# Altium schematic symbol library GOST_lib_devices.SchLib: 17 symbols
Pins are listed as number, name and electrical type; pins without a type are passive.

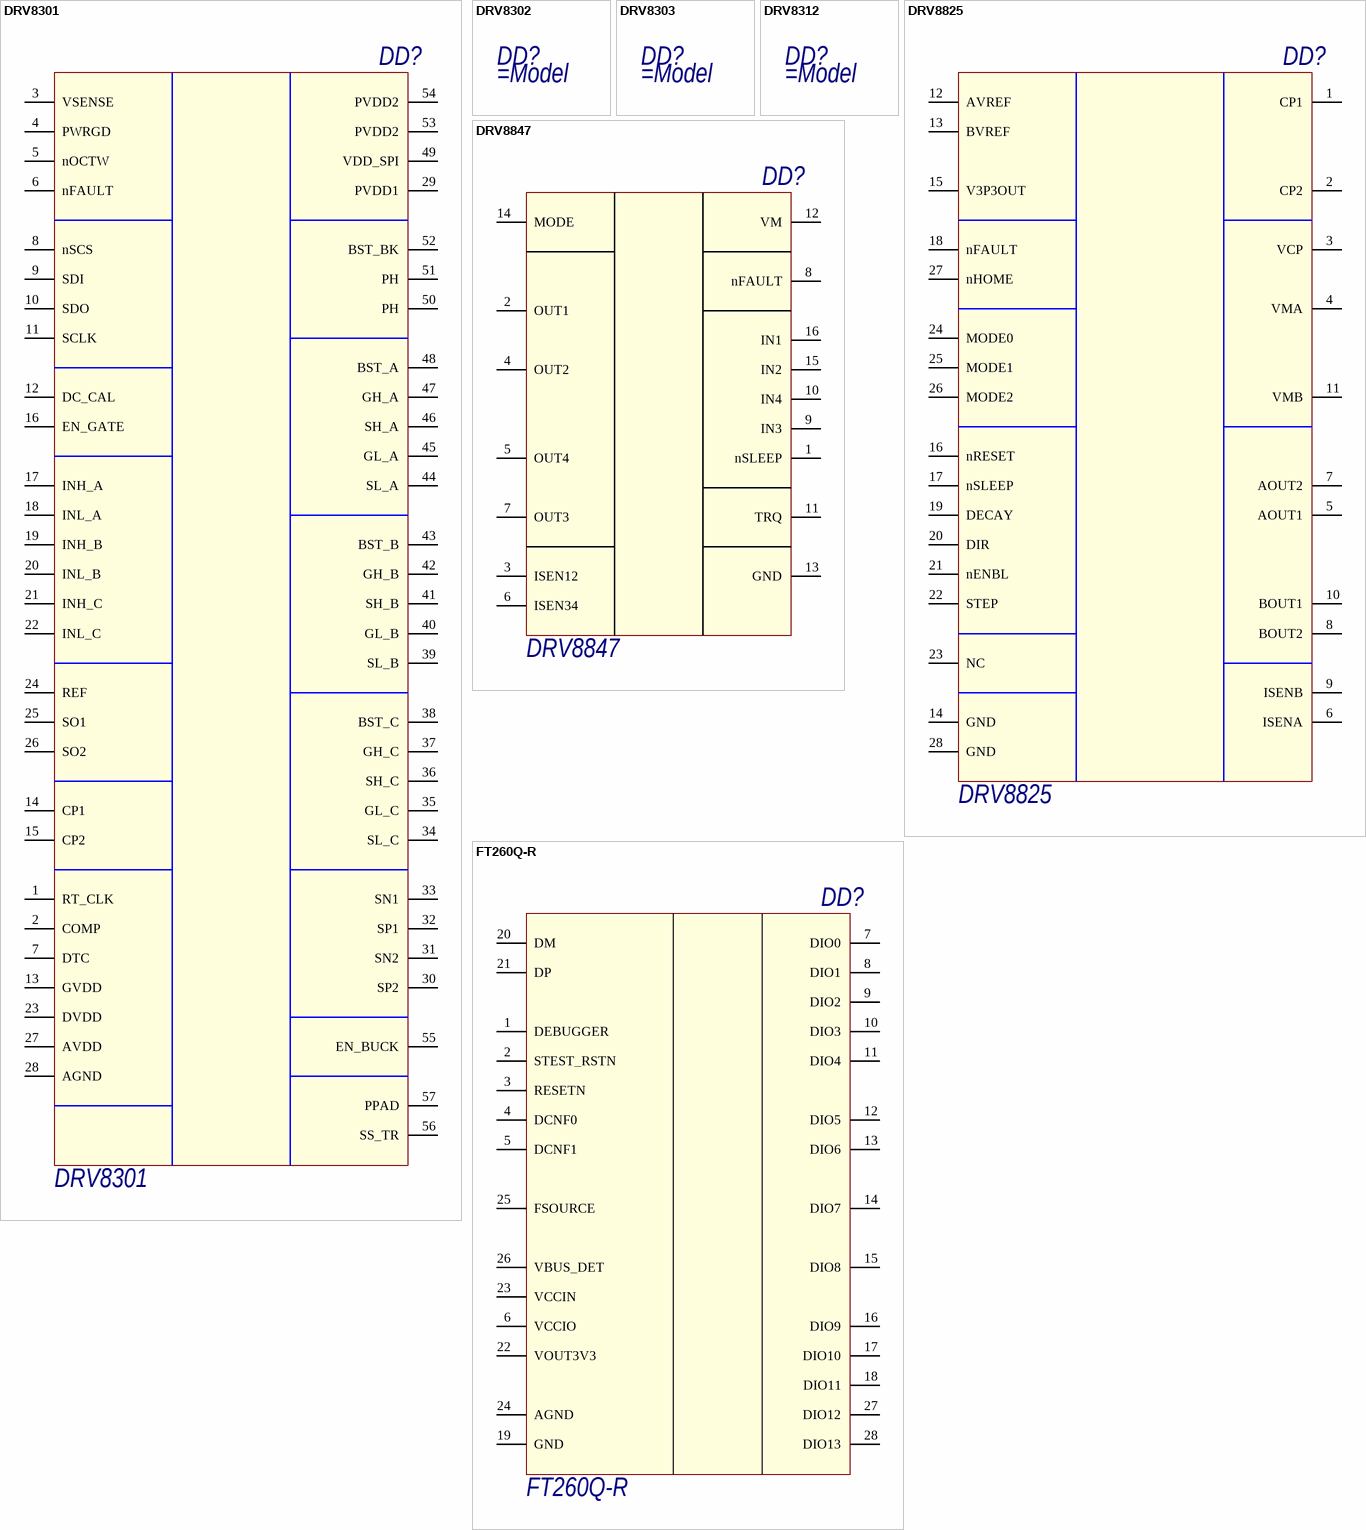
[diagram p0: symbols DRV8301 to FT260Q-R]

## DRV8301
designator DD?
Manufacture: Texas Instruments; Model: DRV8301; Case: R-PDSO-G56; HelpURL: http://www.ti.com/product/DRV8301
pins: 1 RT_CLK (power), 2 COMP (power), 3 VSENSE (power), 4 PWRGD (power), 5 nOCTW (power), 6 nFAULT (power), 7 DTC (power), 8 nSCS (power), 9 SDI (power), 10 SDO (power), 11 SCLK (power), 12 DC_CAL (power), 13 GVDD (power), 14 CP1 (power), 15 CP2 (power), 16 EN_GATE (power), 17 INH_A (power), 18 INL_A (power), 19 INH_B (power), 20 INL_B (power), 21 INH_C (power), 22 INL_C (power), 23 DVDD (power), 24 REF (power), 25 SO1 (power), 26 SO2 (power), 27 AVDD (power), 28 AGND (power), 29 PVDD1 (power), 30 SP2 (power), 31 SN2 (power), 32 SP1 (power), 33 SN1 (power), 34 SL_C (power), 35 GL_C (power), 36 SH_C (power), 37 GH_C (power), 38 BST_C (power), 39 SL_B (power), 40 GL_B (power), 41 SH_B (power), 42 GH_B (power), 43 BST_B (power), 44 SL_A (power), 45 GL_A (power), 46 SH_A (power), 47 GH_A (power), 48 BST_A (power), 49 VDD_SPI (power), 50 PH (power), 51 PH (power), 52 BST_BK (power), 53 PVDD2 (power), 54 PVDD2 (power), 55 EN_BUCK (power), 56 SS_TR (power), 57 PPAD (power)

## DRV8302
designator DD?
HelpURL: http://www.ti.com/product/DRV8302

## DRV8303
designator DD?
HelpURL: http://www.ti.com/product/DRV8303

## DRV8312
designator DD?
HelpURL: http://www.ti.com/product/DRV8312

## DRV8825
designator DD?
Manufacture: Texas Instruments; HelpURL: http://www.ti.com/product/DRV8825; Model: DRV8825; Case: TSSOP
pins: 1 CP1 (power), 2 CP2 (power), 3 VCP (power), 4 VMA (power), 5 AOUT1 (power), 6 ISENA (power), 7 AOUT2 (power), 8 BOUT2 (power), 9 ISENB (power), 10 BOUT1 (power), 11 VMB (power), 12 AVREF (power), 13 BVREF (power), 14 GND (power), 15 V3P3OUT (power), 16 nRESET (power), 17 nSLEEP (power), 18 nFAULT (power), 19 DECAY (power), 20 DIR (power), 21 nENBL (power), 22 STEP (power), 23 NC (power), 24 MODE0 (power), 25 MODE1 (power), 26 MODE2 (power), 27 nHOME (power), 28 GND (power)

## DRV8847
designator DD?
Manufacture: Texas Instruments; HelpURL: http://www.ti.com/product/DRV8847; Case: TSSOP; Model: DRV8847
pins: 1 nSLEEP (power), 2 OUT1 (power), 3 ISEN12 (power), 4 OUT2 (power), 5 OUT4 (power), 6 ISEN34 (power), 7 OUT3 (power), 8 nFAULT (power), 9 IN3 (power), 10 IN4 (power), 11 TRQ (power), 12 VM (power), 13 GND (power), 14 MODE (power), 15 IN2 (power), 16 IN1 (power)

## FT260Q-R
designator DD?
Manufacture: FTDI, Future Technology Devices International Ltd; Model: FT260Q-R; Case: 28-WQFN (5x5); HelpURL: https://www.digikey.com/product-detail/en/ftdi-future-technology-devices-international-ltd/FT260Q-R/FT260Q-RTR-ND/5956531
footprint FT260-Q (PQFN, 28-Leads, Body 5,00x5,00mm, Pitch 0,50mm, Thermal Pad 3,25x3,25mm, IPC Medium Density)
pins: 1 DEBUGGER, 2 STEST_RSTN, 3 RESETN, 4 DCNF0, 5 DCNF1, 6 VCCIO, 7 DIO0, 8 DIO1, 9 DIO2, 10 DIO3, 11 DIO4, 12 DIO5, 13 DIO6, 14 DIO7, 15 DIO8, 16 DIO9, 17 DIO10, 18 DIO11, 19 GND, 20 DM, 21 DP, 22 VOUT3V3, 23 VCCIN, 24 AGND, 25 FSOURCE, 26 VBUS_DET, 27 DIO12, 28 DIO13

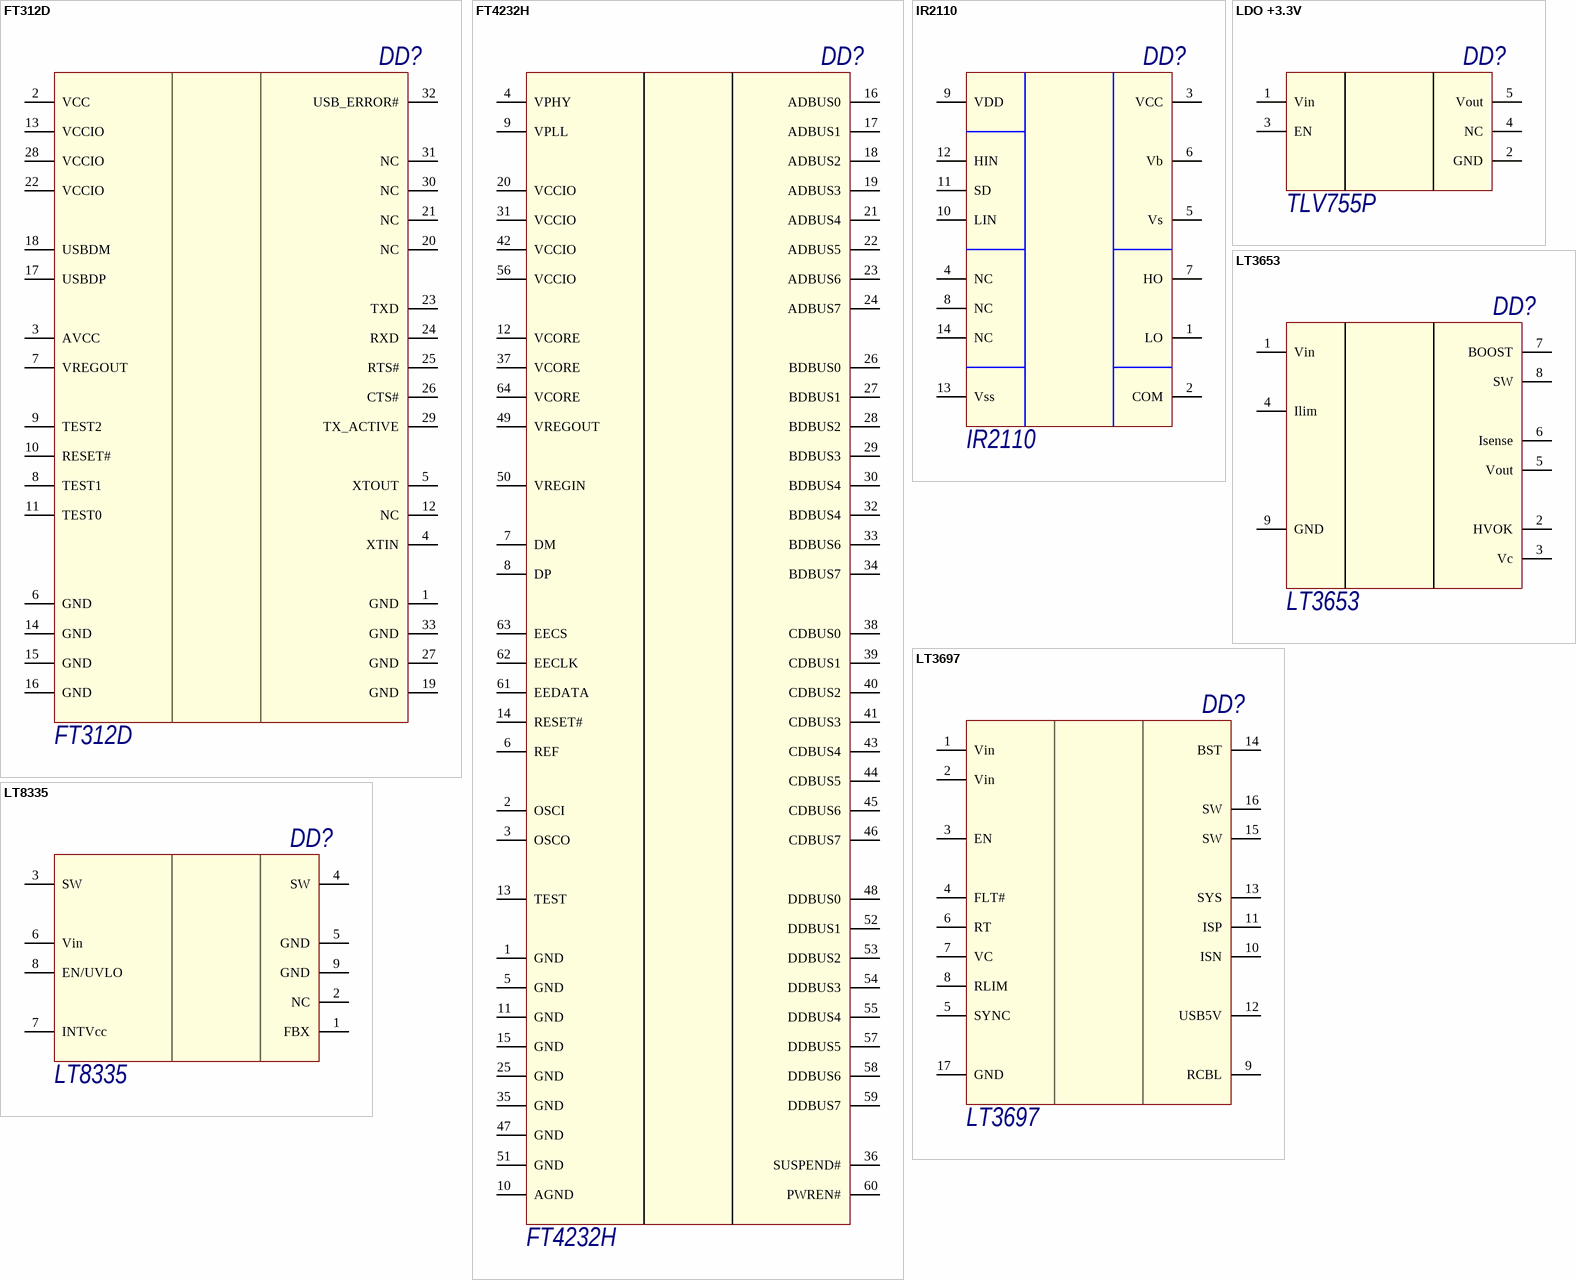
[diagram p1: symbols FT312D to LT8335]

## FT312D
designator DD?
Manufacture: FTDI, Future Technology Devices International Ltd; HelpURL: https://www.ftdichip.com/Products/ICs/FT312D.html; Case: QFN-32; Model: FT312D
footprint FT312D (QFN, 32-Leads, Body 7,00x7,00mm, Pitch 0,65mm, Thermal Pad 4,70x4,70mm, IPC Medium Density)
pins: 1 GND (power), 2 VCC (power), 3 AVCC (power), 4 XTIN (power), 5 XTOUT (power), 6 GND (power), 7 VREGOUT (power), 8 TEST1 (power), 9 TEST2 (power), 10 RESET# (power), 11 TEST0 (power), 12 NC (power), 13 VCCIO (power), 14 GND (power), 15 GND (power), 16 GND (power), 17 USBDP (power), 18 USBDM (power), 19 GND (power), 20 NC (power), 21 NC (power), 22 VCCIO (power), 23 TXD (power), 24 RXD (power), 25 RTS# (power), 26 CTS# (power), 27 GND (power), 28 VCCIO (power), 29 TX_ACTIVE (power), 30 NC (power), 31 NC (power), 32 USB_ERROR# (power), 33 GND (power)

## FT4232H
designator DD?
Manufacture: FTDI, Future Technology Devices International Ltd; HelpURL: https://www.ftdichip.com/Products/ICs/FT4232H.htm; Case: QFN-64; Model: FT4232H
footprint FT4232 (QFN-64 9x9)
pins: 1 GND (power), 2 OSCI (power), 3 OSCO (power), 4 VPHY (power), 5 GND (power), 6 REF (power), 7 DM (power), 8 DP (power), 9 VPLL (power), 10 AGND (power), 11 GND (power), 12 VCORE (power), 13 TEST (power), 14 RESET# (power), 15 GND (power), 16 ADBUS0 (power), 17 ADBUS1 (power), 18 ADBUS2 (power), 19 ADBUS3 (power), 20 VCCIO (power), 21 ADBUS4 (power), 22 ADBUS5 (power), 23 ADBUS6 (power), 24 ADBUS7 (power), 25 GND (power), 26 BDBUS0 (power), 27 BDBUS1 (power), 28 BDBUS2 (power), 29 BDBUS3 (power), 30 BDBUS4 (power), 31 VCCIO (power), 32 BDBUS4 (power), 33 BDBUS6 (power), 34 BDBUS7 (power), 35 GND (power), 36 SUSPEND# (power), 37 VCORE (power), 38 CDBUS0 (power), 39 CDBUS1 (power), 40 CDBUS2 (power), 41 CDBUS3 (power), 42 VCCIO (power), 43 CDBUS4 (power), 44 CDBUS5 (power), 45 CDBUS6 (power), 46 CDBUS7 (power), 47 GND (power), 48 DDBUS0 (power), 49 VREGOUT (power), 50 VREGIN (power), 51 GND (power), 52 DDBUS1 (power), 53 DDBUS2 (power), 54 DDBUS3 (power), 55 DDBUS4 (power), 56 VCCIO (power), 57 DDBUS5 (power), 58 DDBUS6 (power), 59 DDBUS7 (power), 60 PWREN# (power), 61 EEDATA (power), 62 EECLK (power), 63 EECS (power), 64 VCORE (power)

## IR2110
designator DD?
Model: IR2110; HelpURL: *; Case: *; Manufacture: *
pins: 1 LO (power), 2 COM (power), 3 VCC (power), 4 NC (power), 5 Vs (power), 6 Vb (power), 7 HO (power), 8 NC (power), 9 VDD (power), 10 LIN (power), 11 SD (power), 12 HIN (power), 13 Vss (power), 14 NC (power)

## LDO +3.3V
designator DD?, comment TLV755P
+5V -> +3.3V; Manufacture: Texas Instruments; Case: SOT-23; HelpURL: http://www.ti.com/product/TLV755P?keyMatch=TLV755P&tisearch=Search-EN-Everything; Model: TLV755P
footprint SOT23-5 (SOT23, 5-Leads, Body 2,90x2,80mm, Pitch 0,95mm, IPC Medium Density)
pins: 1 Vin (power), 2 GND (power), 3 EN (power), 4 NC (power), 5 Vout (power)

## LT3653
designator DD?
+7.5~+30V -> +5V; Manufacture: Linear Technology; Case: 8-Lead Plastic DFN (2mm × 3mm); Model: LT3653; HelpURL: https://www.analog.com/en/products/lt3653.html
footprint LT3653 (SON, 8-Leads, Body 2,00x3,00mm, Pitch 0,45mm, Thermal Pad 1,35x1,12mm, IPC Medium Density)
pins: 1 Vin (power), 2 HVOK (power), 3 Vc (power), 4 Ilim (power), 5 Vout (power), 6 Isense (power), 7 BOOST (power), 8 SW (power), 9 GND (power)

## LT3697
designator DD?
+6~+18V -> +5V; Manufacture: Linear Technology; Model: LT3697; HelpURL: https://www.analog.com/en/products/lt3697.html; Case: 16-Lead Plastic MSOP, Exposed Die Pad
footprint LT3697 (TSSOP, 16-Leads, Body 4,00x3,00mm, Pitch 0,50mm, Thermal Pad 2,80x1,60mm, IPC Medium Density)
pins: 1 Vin (power), 2 Vin (power), 3 EN (power), 4 FLT# (power), 5 SYNC (power), 6 RT (power), 7 VC (power), 8 RLIM (power), 9 RCBL (power), 10 ISN (power), 11 ISP (power), 12 USB5V (power), 13 SYS (power), 14 BST (power), 15 SW (power), 16 SW (power), 17 GND (power)

## LT8335
designator DD?
+4~+16V -> +5V; Manufacture: Linear Technology; Model: LT8335; Case: 8-Lead Plastic DFN (3mm × 2mm); HelpURL: https://www.analog.com/en/products/lt8335.html
footprint LT8335 (SON, 8-Leads, Body 3,00x2,00mm, Pitch 0,50mm, Thermal Pad 2,20x0,12mm, IPC Medium Density)
pins: 1 FBX (power), 2 NC (power), 3 SW (power), 4 SW (power), 5 GND (power), 6 Vin (power), 7 INTVcc (power), 8 EN/UVLO (power), 9 GND (power)

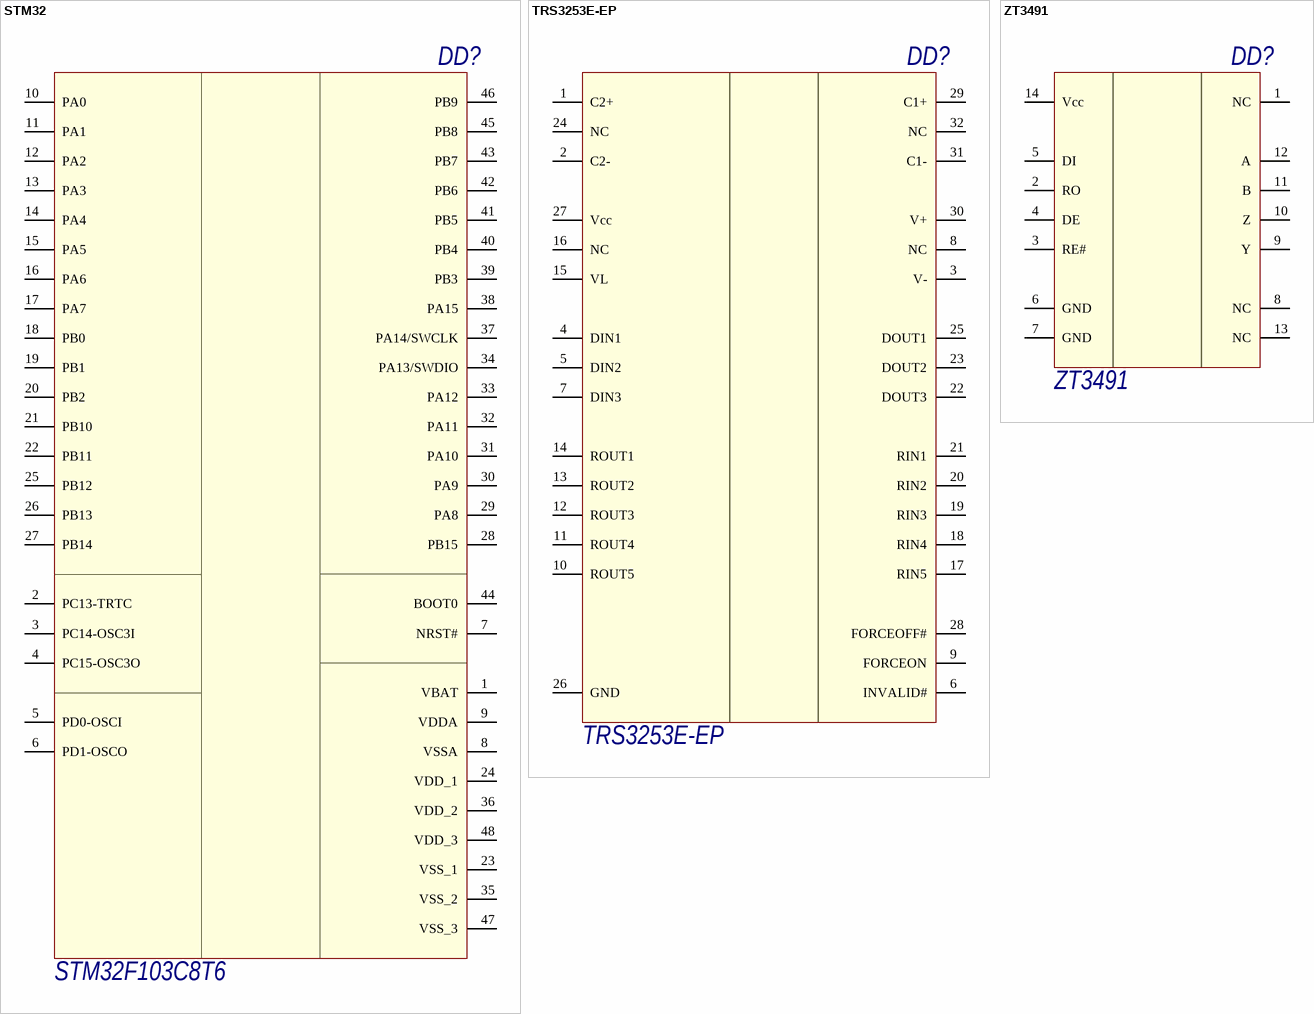
[diagram p2: symbols STM32 to ZT3491]

## STM32
designator DD?, comment STM32F103C8T6
Manufacture: STMicroelectronics; Case: LQFP48; Model: STM32F103C8T6; HelpURL: https://www.st.com/en/microcontrollers-microprocessors/stm32f103c8.html
pins: 1 VBAT, 2 PC13-TRTC, 3 PC14-OSC3I, 4 PC15-OSC3O, 5 PD0-OSCI, 6 PD1-OSCO, 7 NRST#, 8 VSSA, 9 VDDA, 10 PA0 "ADC12_IN0/TIM2_CH1/USART2_CTS", 11 PA1 "ADC12_IN1/TIM2_CH2/USART2_RTS", 12 PA2 "ADC12_IN2/TIM2_CH3/USART2_TX", 13 PA3 "ADC12_IN3/TIM2_CH4/USART2_RX", 14 PA4 "ADC12_IN4/USART2_CK/SPI1_NSS", 15 PA5 "ADC12_IN5/SPI1_SCK", 16 PA6 "ADC12_IN6/TIM3_CH1/SPI1_MISO", 17 PA7 "ADC12_IN7/TIM3_CH2/SPI1_MOSI", 18 PB0 "ADC12_IN8/TIM3_CH3", 19 PB1 "ADC12_IN9/TIM3_CH4", 20 PB2, 21 PB10 "I2C2_SCL", 22 PB11 "I2C2_SDA/USART3_RX", 23 VSS_1, 24 VDD_1, 25 PB12 "TIM1_BKN/USART3_CK/SPI2_NSS/I2C2_SMBAI", 26 PB13 "TIM1_CH1N/USART3_CTS/SPI2_SCK", 27 PB14 "TIM1_CH2N/USART3_RTS/SPI2/MISO", 28 PB15 "TIM1_CH3N/SPI2_MOSI", 29 PA8 "TIM1_CH1/USART1_CK", 30 PA9 "TIM1_CH2/USART1_TX", 31 PA10 "TIM1_CH3/USART1_RX", 32 PA11 "TIM1_CH4/USART1_CTS/CANRX/USBDM", 33 PA12 "TIM1_ETR/USART1_RTS/CANTX/USBDP", 34 PA13/SWDIO, 35 VSS_2, 36 VDD_2, 37 PA14/SWCLK, 38 PA15, 39 PB3, 40 PB4, 41 PB5 "I2C1_SMBAI", 42 PB6 "I2C1_SCL/TIM4_CH1", 43 PB7 "I2C1_SDA/TIM4_CH2", 44 BOOT0, 45 PB8 "TIM4_CH3", 46 PB9 "TIM4_CH4", 47 VSS_3, 48 VDD_3

## TRS3253E-EP
designator DD?
UART -> RS232; Manufacture: Texas Instruments; Model: TRS3253E-EP; Case: PQFN-32; HelpURL: http://www.ti.com/product/trs3253e-ep
footprint TRS3253E-EP (PQFN, 32-Leads, Body 4,00x4,00mm, Pitch 0,40mm, Thermal Pad 2,80x2,80mm, IPC Medium Density)
pins: 1 C2+ (power), 2 C2- (power), 3 V- (power), 4 DIN1 (power), 5 DIN2 (power), 6 INVALID# (power), 7 DIN3 (power), 8 NC (power), 9 FORCEON (power), 10 ROUT5 (power), 11 ROUT4 (power), 12 ROUT3 (power), 13 ROUT2 (power), 14 ROUT1 (power), 15 VL (power), 16 NC (power), 17 RIN5 (power), 18 RIN4 (power), 19 RIN3 (power), 20 RIN2 (power), 21 RIN1 (power), 22 DOUT3 (power), 23 DOUT2 (power), 24 NC (power), 25 DOUT1 (power), 26 GND (power), 27 Vcc (power), 28 FORCEOFF# (power), 29 C1+ (power), 30 V+ (power), 31 C1- (power), 32 NC (power)

## ZT3491
designator DD?
UART -> RS-422 / RS-485; Manufacture: Zywyn; Case: nSOIC-14; Model: ZT3491; HelpURL: https://www.kynix.com/Detail/195117/ZT3483LEEN.html
footprint ZT3485E (SOIC, 14-Leads, Body 8,65x3,90mm, Pitch 1,27mm, IPC Medium Density)
pins: 1 NC (power), 2 RO (power), 3 RE# (power), 4 DE (power), 5 DI (power), 6 GND (power), 7 GND (power), 8 NC (power), 9 Y (power), 10 Z (power), 11 B (power), 12 A (power), 13 NC (power), 14 Vcc (power)